# Altium footprint library QFP_Thin_Sq_65P_Side_M.PcbLib: 6 footprints
Each footprint in its own frame and in the unit in brackets; x right, y up, seen from the top. Pads: shape width x height; smd on the part's side, far side on the other; paste and mask are expansions set on the pad; w line width, h text height; cw(c..) or ccw(c..) is an arc to the next point about the centre after c.
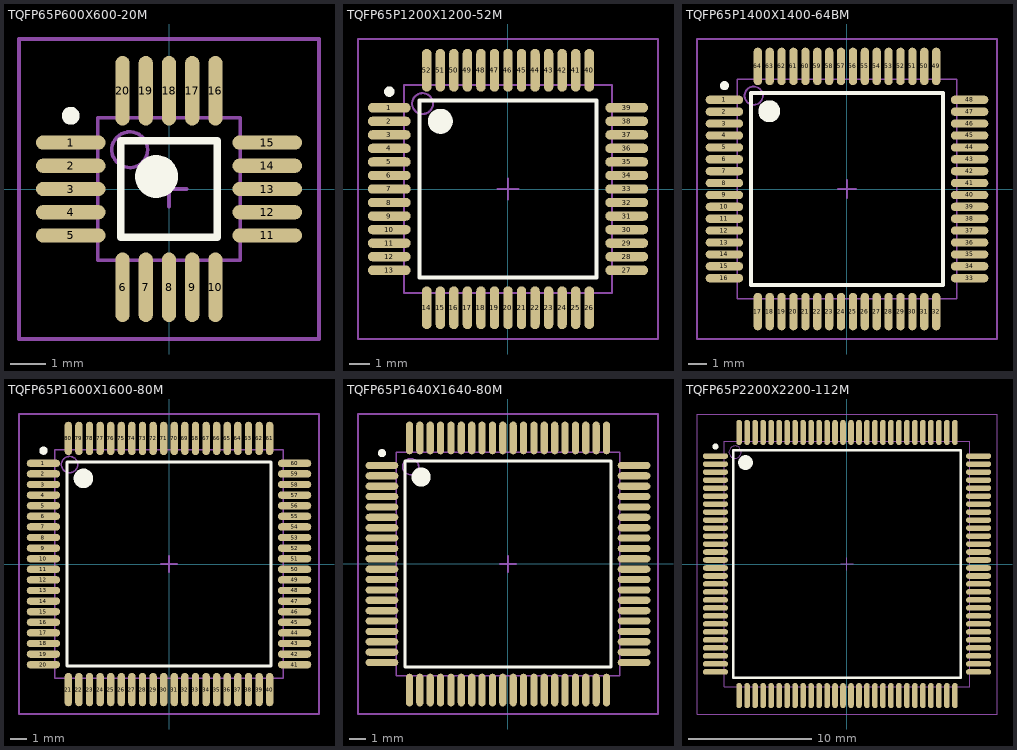
[diagram p0: the footprints below, top view; thin cyan lines are the x and y axes]

## TQFP65P600X600-20M [mm] "Thin QFP, 20-Leads, Body 4 x 4mm, Pitch 0.65mm, IPC Low Density"
height 1.6
pads (20):
  oval 1.95x0.4 smd: 1(-2.75,1.3) 2(-2.75,0.65) 3(-2.75,0) 4(-2.75,-0.65) 5(-2.75,-1.3) 11(2.75,-1.3) 12(2.75,-0.65) 13(2.75,0) 14(2.75,0.65) 15(2.75,1.3)
  oval 0.4x1.95 smd: 6(-1.3,-2.75) 7(-0.65,-2.75) 8(0,-2.75) 9(0.65,-2.75) 10(1.3,-2.75) 16(1.3,2.75) 17(0.65,2.75) 18(0,2.75) 19(-0.65,2.75) 20(-1.3,2.75)
Top Overlay:
  circle w0.6: c-0.35,0.35 r0.3
  circle w0.25: c-2.75,2.05 r0.125
  lines w0.2: -1.35,-1.35 1.35,-1.35 1.35,1.35 -1.35,1.35 -1.35,-1.35
Mechanical 13:
  circle w0.1: c-1.1,1.1 r0.5
  lines w0.1: -2,-2 2,-2 2,2 -2,2 -2,-2
Mechanical 15:
  lines w0.1: -0.5,0 0.5,0 ; 0,-0.5 0,0.5 ; -4.2,-4.2 4.2,-4.2 4.2,4.2 -4.2,4.2 -4.2,-4.2
3D body: height 1.6, standoff 0, extent -2,-2 2,2

## TQFP65P1200X1200-52M [mm] "Thin QFP, 52-Leads, Body 10 x 10mm, Pitch 0.65mm, IPC Low Density"
height 1.2
pads (52):
  oval 2.05x0.45 smd: 1(-5.7,3.9) 2(-5.7,3.25) 3(-5.7,2.6) 4(-5.7,1.95) 5(-5.7,1.3) 6(-5.7,0.65) 7(-5.7,0) 8(-5.7,-0.65) 9(-5.7,-1.3) 10(-5.7,-1.95) 11(-5.7,-2.6) 12(-5.7,-3.25) 13(-5.7,-3.9) 27(5.7,-3.9) 28(5.7,-3.25) 29(5.7,-2.6) 30(5.7,-1.95) 31(5.7,-1.3) 32(5.7,-0.65) 33(5.7,0) 34(5.7,0.65) 35(5.7,1.3) 36(5.7,1.95) 37(5.7,2.6) 38(5.7,3.25) 39(5.7,3.9)
  oval 0.45x2.05 smd: 14(-3.9,-5.7) 15(-3.25,-5.7) 16(-2.6,-5.7) 17(-1.95,-5.7) 18(-1.3,-5.7) 19(-0.65,-5.7) 20(0,-5.7) 21(0.65,-5.7) 22(1.3,-5.7) 23(1.95,-5.7) 24(2.6,-5.7) 25(3.25,-5.7) 26(3.9,-5.7) 40(3.9,5.7) 41(3.25,5.7) 42(2.6,5.7) 43(1.95,5.7) 44(1.3,5.7) 45(0.65,5.7) 46(0,5.7) 47(-0.65,5.7) 48(-1.3,5.7) 49(-1.95,5.7) 50(-2.6,5.7) 51(-3.25,5.7) 52(-3.9,5.7)
Top Overlay:
  circle w0.6: c-3.25,3.25 r0.3
  circle w0.25: c-5.7,4.675 r0.125
  lines w0.2: -4.25,-4.25 4.25,-4.25 4.25,4.25 -4.25,4.25 -4.25,-4.25
Mechanical 13:
  circle w0.1: c-4.1,4.1 r0.5
  lines w0.1: -5,-5 5,-5 5,5 -5,5 -5,-5
Mechanical 15:
  lines w0.1: -0.5,0 0.5,0 ; 0,-0.5 0,0.5 ; -7.2,-7.2 7.2,-7.2 7.2,7.2 -7.2,7.2 -7.2,-7.2
3D body: height 1.2, standoff 0, extent -5,-5 5,5

## TQFP65P1400X1400-64BM [mm] "Thin QFP, 64-Leads, Body 12 x 12mm, Pitch 0.65mm, IPC Low Density"
height 1.2
pads (64):
  oval 2.05x0.45 smd: 1(-6.7,4.875) 2(-6.7,4.225) 3(-6.7,3.575) 4(-6.7,2.925) 5(-6.7,2.275) 6(-6.7,1.625) 7(-6.7,0.975) 8(-6.7,0.325) 9(-6.7,-0.325) 10(-6.7,-0.975) 11(-6.7,-1.625) 12(-6.7,-2.275) 13(-6.7,-2.925) 14(-6.7,-3.575) 15(-6.7,-4.225) 16(-6.7,-4.875) 33(6.7,-4.875) 34(6.7,-4.225) 35(6.7,-3.575) 36(6.7,-2.925) 37(6.7,-2.275) 38(6.7,-1.625) 39(6.7,-0.975) 40(6.7,-0.325) 41(6.7,0.325) 42(6.7,0.975) 43(6.7,1.625) 44(6.7,2.275) 45(6.7,2.925) 46(6.7,3.575) 47(6.7,4.225) 48(6.7,4.875)
  oval 0.45x2.05 smd: 17(-4.875,-6.7) 18(-4.225,-6.7) 19(-3.575,-6.7) 20(-2.925,-6.7) 21(-2.275,-6.7) 22(-1.625,-6.7) 23(-0.975,-6.7) 24(-0.325,-6.7) 25(0.325,-6.7) 26(0.975,-6.7) 27(1.625,-6.7) 28(2.275,-6.7) 29(2.925,-6.7) 30(3.575,-6.7) 31(4.225,-6.7) 32(4.875,-6.7) 49(4.875,6.7) 50(4.225,6.7) 51(3.575,6.7) 52(2.925,6.7) 53(2.275,6.7) 54(1.625,6.7) 55(0.975,6.7) 56(0.325,6.7) 57(-0.325,6.7) 58(-0.975,6.7) 59(-1.625,6.7) 60(-2.275,6.7) 61(-2.925,6.7) 62(-3.575,6.7) 63(-4.225,6.7) 64(-4.875,6.7)
Top Overlay:
  circle w0.25: c-6.7,5.65 r0.125
  circle w0.6: c-4.25,4.25 r0.3
  lines w0.2: -5.25,-5.25 -5.25,5.25 5.25,5.25 5.25,-5.25 -5.25,-5.25
Mechanical 13:
  circle w0.1: c-5.1,5.1 r0.5
  lines w0.1: -6,-6 -6,6 6,6 6,-6 -6,-6
Mechanical 15:
  lines w0.1: -0.5,0 0.5,0 ; 0,-0.5 0,0.5 ; -8.2,-8.2 -8.2,8.2 8.2,8.2 8.2,-8.2 -8.2,-8.2
3D body: height 1.2, standoff 0, extent -6,-6 6,6

## TQFP65P1600X1600-80M [mm] "Thin QFP, 80-Leads, Body 14 x 14mm, Pitch 0.65mm, IPC Low Density"
height 1.2
pads (80):
  oval 2.05x0.45 smd: 1(-7.7,6.175) 2(-7.7,5.525) 3(-7.7,4.875) 4(-7.7,4.225) 5(-7.7,3.575) 6(-7.7,2.925) 7(-7.7,2.275) 8(-7.7,1.625) 9(-7.7,0.975) 10(-7.7,0.325) 11(-7.7,-0.325) 12(-7.7,-0.975) 13(-7.7,-1.625) 14(-7.7,-2.275) 15(-7.7,-2.925) 16(-7.7,-3.575) 17(-7.7,-4.225) 18(-7.7,-4.875) 19(-7.7,-5.525) 20(-7.7,-6.175) 41(7.7,-6.175) 42(7.7,-5.525) 43(7.7,-4.875) 44(7.7,-4.225) 45(7.7,-3.575) 46(7.7,-2.925) 47(7.7,-2.275) 48(7.7,-1.625) 49(7.7,-0.975) 50(7.7,-0.325) 51(7.7,0.325) 52(7.7,0.975) 53(7.7,1.625) 54(7.7,2.275) 55(7.7,2.925) 56(7.7,3.575) 57(7.7,4.225) 58(7.7,4.875) 59(7.7,5.525) 60(7.7,6.175)
  oval 0.45x2.05 smd: 21(-6.175,-7.7) 22(-5.525,-7.7) 23(-4.875,-7.7) 24(-4.225,-7.7) 25(-3.575,-7.7) 26(-2.925,-7.7) 27(-2.275,-7.7) 28(-1.625,-7.7) 29(-0.975,-7.7) 30(-0.325,-7.7) 31(0.325,-7.7) 32(0.975,-7.7) 33(1.625,-7.7) 34(2.275,-7.7) 35(2.925,-7.7) 36(3.575,-7.7) 37(4.225,-7.7) 38(4.875,-7.7) 39(5.525,-7.7) 40(6.175,-7.7) 61(6.175,7.7) 62(5.525,7.7) 63(4.875,7.7) 64(4.225,7.7) 65(3.575,7.7) 66(2.925,7.7) 67(2.275,7.7) 68(1.625,7.7) 69(0.975,7.7) 70(0.325,7.7) 71(-0.325,7.7) 72(-0.975,7.7) 73(-1.625,7.7) 74(-2.275,7.7) 75(-2.925,7.7) 76(-3.575,7.7) 77(-4.225,7.7) 78(-4.875,7.7) 79(-5.525,7.7) 80(-6.175,7.7)
Top Overlay:
  circle w0.6: c-5.25,5.25 r0.3
  circle w0.25: c-7.7,6.95 r0.125
  lines w0.2: -6.25,-6.25 6.25,-6.25 6.25,6.25 -6.25,6.25 -6.25,-6.25
Mechanical 13:
  circle w0.1: c-6.1,6.1 r0.5
  lines w0.1: -7,-7 7,-7 7,7 -7,7 -7,-7
Mechanical 15:
  lines w0.1: -0.5,0 0.5,0 ; 0,-0.5 0,0.5 ; -9.2,-9.2 9.2,-9.2 9.2,9.2 -9.2,9.2 -9.2,-9.2
3D body: height 1.2, standoff 0, extent -7,-7 7,7

## TQFP65P1640X1640-80M [mm] "Thin QFP, 80-Leads, Body 14 x 14mm, Pitch 0.65mm, IPC Low Density"
height 1.6
pads (80):
  oval 2.05x0.45 smd: 1(-7.9,6.175) 2(-7.9,5.525) 3(-7.9,4.875) 4(-7.9,4.225) 5(-7.9,3.575) 6(-7.9,2.925) 7(-7.9,2.275) 8(-7.9,1.625) 9(-7.9,0.975) 10(-7.9,0.325) 11(-7.9,-0.325) 12(-7.9,-0.975) 13(-7.9,-1.625) 14(-7.9,-2.275) 15(-7.9,-2.925) 16(-7.9,-3.575) 17(-7.9,-4.225) 18(-7.9,-4.875) 19(-7.9,-5.525) 20(-7.9,-6.175) 41(7.9,-6.175) 42(7.9,-5.525) 43(7.9,-4.875) 44(7.9,-4.225) 45(7.9,-3.575) 46(7.9,-2.925) 47(7.9,-2.275) 48(7.9,-1.625) 49(7.9,-0.975) 50(7.9,-0.325) 51(7.9,0.325) 52(7.9,0.975) 53(7.9,1.625) 54(7.9,2.275) 55(7.9,2.925) 56(7.9,3.575) 57(7.9,4.225) 58(7.9,4.875) 59(7.9,5.525) 60(7.9,6.175)
  oval 0.45x2.05 smd: 21(-6.175,-7.9) 22(-5.525,-7.9) 23(-4.875,-7.9) 24(-4.225,-7.9) 25(-3.575,-7.9) 26(-2.925,-7.9) 27(-2.275,-7.9) 28(-1.625,-7.9) 29(-0.975,-7.9) 30(-0.325,-7.9) 31(0.325,-7.9) 32(0.975,-7.9) 33(1.625,-7.9) 34(2.275,-7.9) 35(2.925,-7.9) 36(3.575,-7.9) 37(4.225,-7.9) 38(4.875,-7.9) 39(5.525,-7.9) 40(6.175,-7.9) 61(6.175,7.9) 62(5.525,7.9) 63(4.875,7.9) 64(4.225,7.9) 65(3.575,7.9) 66(2.925,7.9) 67(2.275,7.9) 68(1.625,7.9) 69(0.975,7.9) 70(0.325,7.9) 71(-0.325,7.9) 72(-0.975,7.9) 73(-1.625,7.9) 74(-2.275,7.9) 75(-2.925,7.9) 76(-3.575,7.9) 77(-4.225,7.9) 78(-4.875,7.9) 79(-5.525,7.9) 80(-6.175,7.9)
Top Overlay:
  circle w0.6: c-5.45,5.45 r0.3
  circle w0.25: c-7.9,6.95 r0.125
  lines w0.2: -6.45,-6.45 6.45,-6.45 6.45,6.45 -6.45,6.45 -6.45,-6.45
Mechanical 13:
  circle w0.1: c-6.1,6.1 r0.5
  lines w0.1: -7,-7 7,-7 7,7 -7,7 -7,-7
Mechanical 15:
  lines w0.1: -0.5,0 0.5,0 ; 0,-0.5 0,0.5 ; -9.4,-9.4 9.4,-9.4 9.4,9.4 -9.4,9.4 -9.4,-9.4
3D body: height 1.6, standoff 0, extent -7,-7 7,7

## TQFP65P2200X2200-112M [mm] "Thin QFP, 112-Leads, Body 20 x 20mm, Pitch 0.65mm, IPC Low Density"
height 1.2
pads (112):
  oval 2.05x0.45 smd: 1(-10.7,8.775) 2(-10.7,8.125) 3(-10.7,7.475) 4(-10.7,6.825) 5(-10.7,6.175) 6(-10.7,5.525) 7(-10.7,4.875) 8(-10.7,4.225) 9(-10.7,3.575) 10(-10.7,2.925) 11(-10.7,2.275) 12(-10.7,1.625) 13(-10.7,0.975) 14(-10.7,0.325) 15(-10.7,-0.325) 16(-10.7,-0.975) 17(-10.7,-1.625) 18(-10.7,-2.275) 19(-10.7,-2.925) 20(-10.7,-3.575) 21(-10.7,-4.225) 22(-10.7,-4.875) 23(-10.7,-5.525) 24(-10.7,-6.175) 25(-10.7,-6.825) 26(-10.7,-7.475) 27(-10.7,-8.125) 28(-10.7,-8.775) 57(10.7,-8.775) 58(10.7,-8.125) 59(10.7,-7.475) 60(10.7,-6.825) 61(10.7,-6.175) 62(10.7,-5.525) 63(10.7,-4.875) 64(10.7,-4.225) 65(10.7,-3.575) 66(10.7,-2.925) 67(10.7,-2.275) 68(10.7,-1.625) 69(10.7,-0.975) 70(10.7,-0.325) 71(10.7,0.325) 72(10.7,0.975) 73(10.7,1.625) 74(10.7,2.275) 75(10.7,2.925) 76(10.7,3.575) 77(10.7,4.225) 78(10.7,4.875) 79(10.7,5.525) 80(10.7,6.175) 81(10.7,6.825) 82(10.7,7.475) 83(10.7,8.125) 84(10.7,8.775)
  oval 0.45x2.05 smd: 29(-8.775,-10.7) 30(-8.125,-10.7) 31(-7.475,-10.7) 32(-6.825,-10.7) 33(-6.175,-10.7) 34(-5.525,-10.7) 35(-4.875,-10.7) 36(-4.225,-10.7) 37(-3.575,-10.7) 38(-2.925,-10.7) 39(-2.275,-10.7) 40(-1.625,-10.7) 41(-0.975,-10.7) 42(-0.325,-10.7) 43(0.325,-10.7) 44(0.975,-10.7) 45(1.625,-10.7) 46(2.275,-10.7) 47(2.925,-10.7) 48(3.575,-10.7) 49(4.225,-10.7) 50(4.875,-10.7) 51(5.525,-10.7) 52(6.175,-10.7) 53(6.825,-10.7) 54(7.475,-10.7) 55(8.125,-10.7) 56(8.775,-10.7) 85(8.775,10.7) 86(8.125,10.7) 87(7.475,10.7) 88(6.825,10.7) 89(6.175,10.7) 90(5.525,10.7) 91(4.875,10.7) 92(4.225,10.7) 93(3.575,10.7) 94(2.925,10.7) 95(2.275,10.7) 96(1.625,10.7) 97(0.975,10.7) 98(0.325,10.7) 99(-0.325,10.7) 100(-0.975,10.7) 101(-1.625,10.7) 102(-2.275,10.7) 103(-2.925,10.7) 104(-3.575,10.7) 105(-4.225,10.7) 106(-4.875,10.7) 107(-5.525,10.7) 108(-6.175,10.7) 109(-6.825,10.7) 110(-7.475,10.7) 111(-8.125,10.7) 112(-8.775,10.7)
Top Overlay:
  circle w0.6: c-8.25,8.25 r0.3
  circle w0.25: c-10.7,9.55 r0.125
  lines w0.2: -9.25,-9.25 9.25,-9.25 9.25,9.25 -9.25,9.25 -9.25,-9.25
Mechanical 13:
  circle w0.1: c-9.1,9.1 r0.5
  lines w0.1: -10,-10 10,-10 10,10 -10,10 -10,-10
Mechanical 15:
  lines w0.1: -0.5,0 0.5,0 ; 0,-0.5 0,0.5 ; -12.2,-12.2 12.2,-12.2 12.2,12.2 -12.2,12.2 -12.2,-12.2
3D body: height 1.2, standoff 0, extent -10,-10 10,10